# Altium integrated library Microchip PIC18.IntLib: 1897 symbols (part 25 of 110)
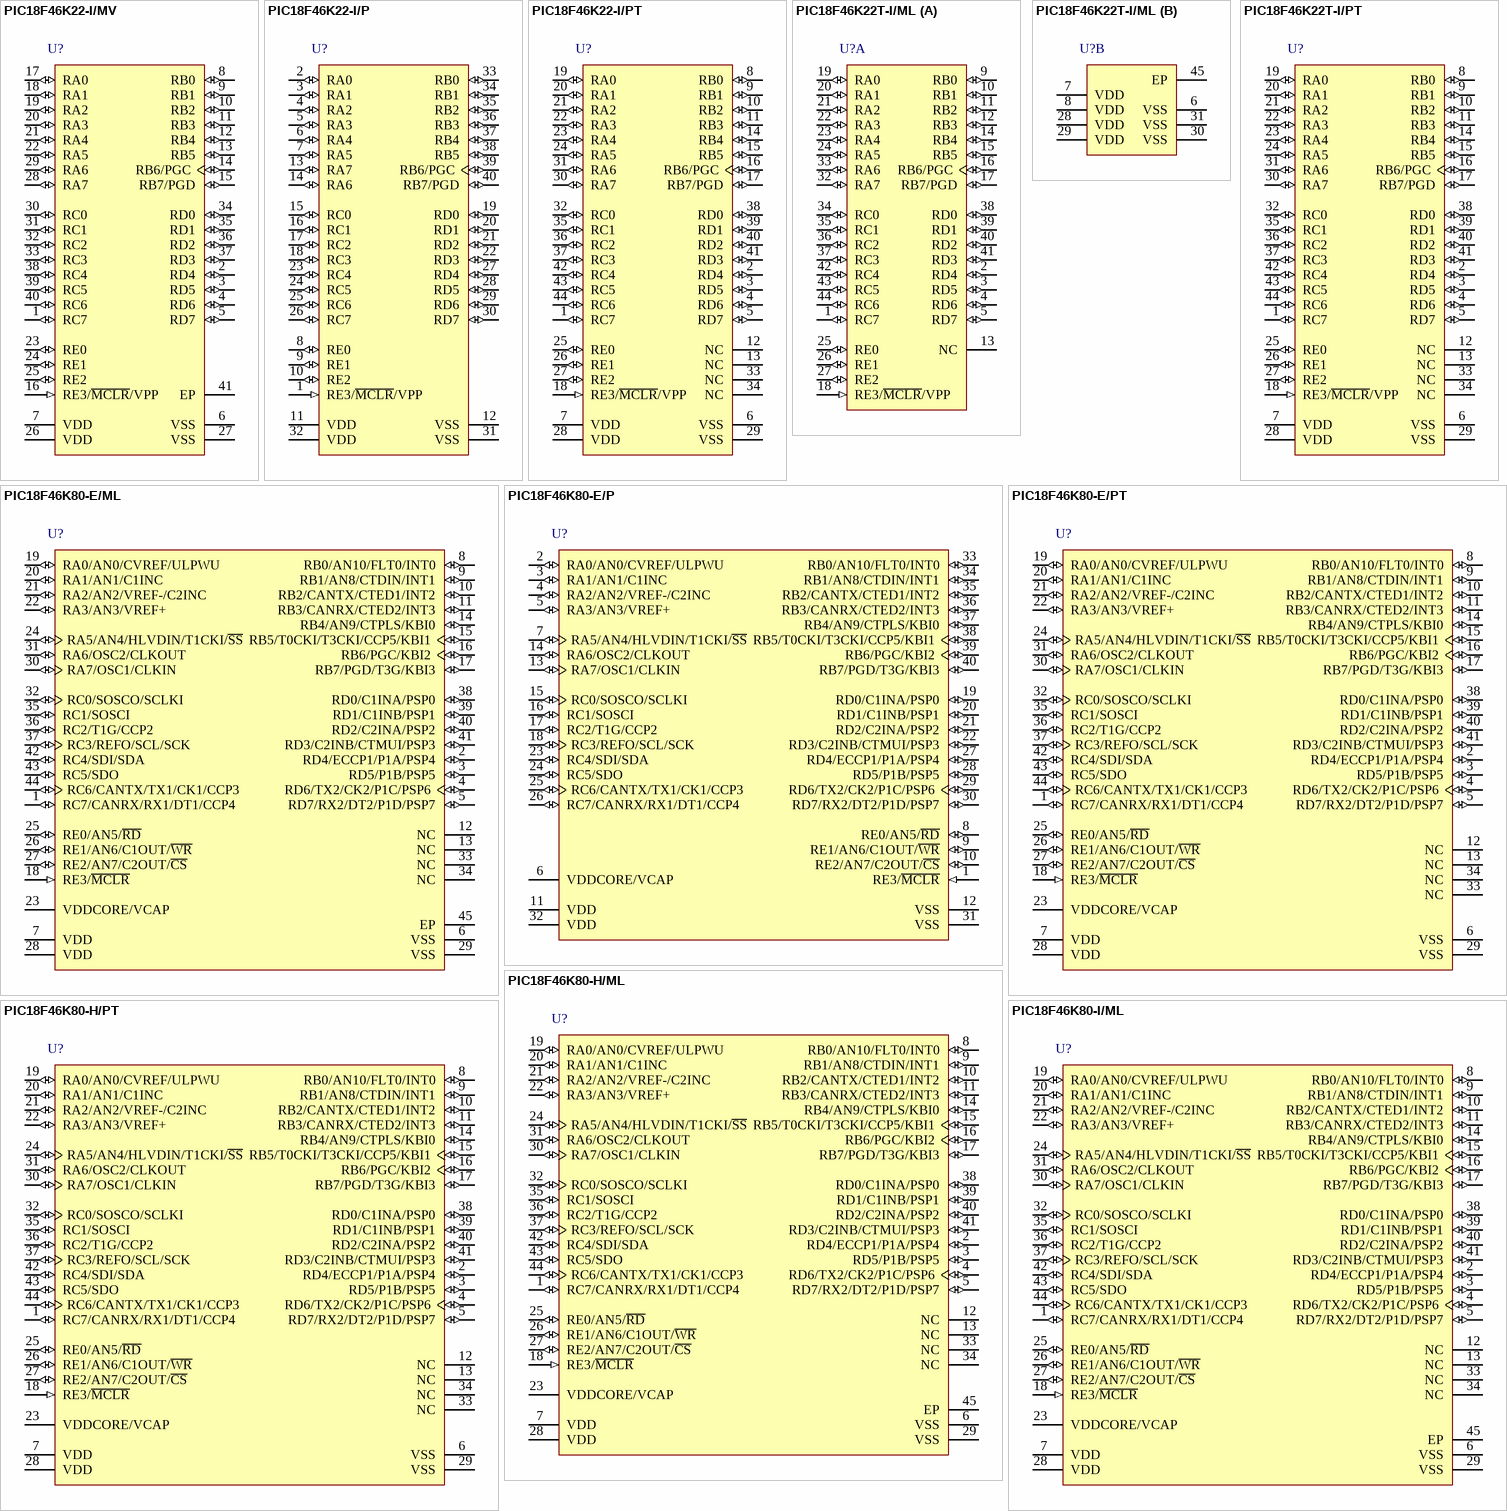
[diagram p235: symbols PIC18F46K22-I/MV to PIC18F46K80-I/ML]

## PIC18F46K80-E/ML
designator U?
Enhanced Flash Microcontroller with ECAN(TM) and nanoWatt XLP Technology, 64 MHz, 35 I/O, -40 to 125 degC, 44-pin QFN (ML44), Tube; Manufacturer: Microchip; PartNumber: PIC18F46K80-E/ML; # of A/D Channels: 11; Digital Communication: 2 -A/E/USART, 1 -SSP(SPI/I2C); EEPROM Data Memory (bytes): 1024; I/O Pins: 35; Internal Oscillator: 16 MHz, 31 kHz; Max. CPU Speed MHz: 64; Operation Voltage Range: 1.8V - 5.5V; Program Memory KWords: 32; RAM: 3648; Timers: 2 - 8-bit, 3 - 16-bit; DatasheetVersion: Rev. F; PackageVersion: C04-103C, 12/2012; PackageReference: QFN-ML44; PackageDescription: 44-Lead Plastic Quad Flat, 8 x 8 mm Body, 0.65 mm Pitch; Supplier 1: Digi-Key; Supplier Part Number 1: PIC18F46K80-E/ML-ND; Supplier 2: Mouser; Supplier Part Number 2: 579-PIC18F46K80-E/ML; Memory Type: Flash; Packing: TUBE; Program Memory KBytes: 64; RoHS: TRUE; Mounting Technology: Surface Mount; ComponentLink1Description: Datasheet; ComponentLink1URL: http://ww1.microchip.com/downloads/en/DeviceDoc/39977f.pdf; ComponentLink2Description: Package Specification; ComponentLink2URL: http://www.microchip.com/stellent/groups/techpub_sg/documents/packagingspec/en012702.pdf; ComponentLink3Description: URL Link1; ComponentLink3URL: Product URL:http://www.microchip.com/datasheet/PIC18F46K80
footprint MCHP-QFN-ML44_N (QFN, 44-Leads, Body 8x8mm, Pitch 0.65mm, Thermal Pad 6.425x6.425mm, IPC Medium Density)
footprint MCHP-QFN-ML44_L (QFN, 44-Leads, Body 8x8mm, Pitch 0.65mm, Thermal Pad 6.425x6.425mm, IPC High Density)
footprint MCHP-QFN-ML44_M (QFN, 44-Leads, Body 8x8mm, Pitch 0.65mm, Thermal Pad 6.425x6.425mm, IPC Low Density)
pins: 1 RC7/CANRX/RX1/DT1/CCP4 (io), 2 RD4/ECCP1/P1A/PSP4 (io), 3 RD5/P1B/PSP5 (io), 4 RD6/TX2/CK2/P1C/PSP6 (io), 5 RD7/RX2/DT2/P1D/PSP7 (io), 6 VSS (power) "Ground reference for logic and I/O pins.", 7 VDD (power) "Positive supply for logic and I/O pins.", 8 RB0/AN10/FLT0/INT0 (io), 9 RB1/AN8/CTDIN/INT1 (io), 10 RB2/CANTX/CTED1/INT2 (io), 11 RB3/CANRX/CTED2/INT3 (io), 12 NC "These pins should be left unconnected.", 13 NC "These pins should be left unconnected.", 14 RB4/AN9/CTPLS/KBI0 (io), 15 RB5/T0CKI/T3CKI/CCP5/KBI1 (io), 16 RB6/PGC/KBI2 (io), 17 RB7/PGD/T3G/KBI3 (io), 18 RE3/~{MCLR} (in), 19 RA0/AN0/CVREF/ULPWU (io), 20 RA1/AN1/C1INC (io), 21 RA2/AN2/VREF-/C2INC (io), 22 RA3/AN3/VREF+ (io), 23 VDDCORE/VCAP (power), 24 RA5/AN4/HLVDIN/T1CKI/~{SS} (io), 25 RE0/AN5/~{RD} (io), 26 RE1/AN6/C1OUT/~{WR} (io), 27 RE2/AN7/C2OUT/~{CS} (io), 28 VDD (power) "Positive supply for logic and I/O pins.", 29 VSS (power) "Ground reference for logic and I/O pins.", 30 RA7/OSC1/CLKIN (io), 31 RA6/OSC2/CLKOUT (io), 32 RC0/SOSCO/SCLKI (io), 33 NC "These pins should be left unconnected.", 34 NC "These pins should be left unconnected.", 35 RC1/SOSCI (io), 36 RC2/T1G/CCP2 (io), 37 RC3/REFO/SCL/SCK (io), 38 RD0/C1INA/PSP0 (io), 39 RD1/C1INB/PSP1 (io), 40 RD2/C2INA/PSP2 (io), 41 RD3/C2INB/CTMUI/PSP3 (io), 42 RC4/SDI/SDA (io), 43 RC5/SDO (io), 44 RC6/CANTX/TX1/CK1/CCP3 (io), 45 EP (power) "Exposed Pad"

## PIC18F46K80-E/P
designator U?
Enhanced Flash Microcontroller with ECAN(TM) and nanoWatt XLP Technology, 64 MHz, 35 I/O, -40 to 125 degC, 40-pin PDIP (P40), Tube; Manufacturer: Microchip; PartNumber: PIC18F46K80-E/P; # of A/D Channels: 11; Digital Communication: 2 -A/E/USART, 1 -SSP(SPI/I2C); EEPROM Data Memory (bytes): 1024; I/O Pins: 35; Internal Oscillator: 16 MHz, 31 kHz; Max. CPU Speed MHz: 64; Operation Voltage Range: 1.8V - 5.5V; Program Memory KWords: 32; RAM: 3648; Timers: 2 - 8-bit, 3 - 16-bit; DatasheetVersion: Rev. F; PackageVersion: C04-016B, 04/2013; PackageReference: PDIP-P40; PackageDescription: 40-Lead Plastic Dual In-Line Package, Body 51.75 x 13.53 mm, Pitch 2.54 mm; Supplier 1: Digi-Key; Supplier Part Number 1: PIC18F46K80-E/P-ND; Supplier 2: Mouser; Supplier Part Number 2: 579-PIC18F46K80-E/P; Memory Type: Flash; Packing: TUBE; Program Memory KBytes: 64; RoHS: TRUE; Mounting Technology: Through Hole; ComponentLink1Description: Datasheet; ComponentLink1URL: http://ww1.microchip.com/downloads/en/DeviceDoc/39977f.pdf; ComponentLink2Description: Package Specification; ComponentLink2URL: http://www.microchip.com/stellent/groups/techpub_sg/documents/packagingspec/en012702.pdf; ComponentLink3Description: URL Link1; ComponentLink3URL: Product URL:http://www.microchip.com/datasheet/PIC18F46K80
footprint MCHP-PDIP-P40 (PDIP, 40-Leads, Body 51.75x13.53mm, Pitch 2.54mm)
pins: 1 RE3/~{MCLR} (in), 2 RA0/AN0/CVREF/ULPWU (io), 3 RA1/AN1/C1INC (io), 4 RA2/AN2/VREF-/C2INC (io), 5 RA3/AN3/VREF+ (io), 6 VDDCORE/VCAP (power), 7 RA5/AN4/HLVDIN/T1CKI/~{SS} (io), 8 RE0/AN5/~{RD} (io), 9 RE1/AN6/C1OUT/~{WR} (io), 10 RE2/AN7/C2OUT/~{CS} (io), 11 VDD (power) "Positive supply for logic and I/O pins", 12 VSS (power) "Ground reference for logic and I/O pins", 13 RA7/OSC1/CLKIN (io), 14 RA6/OSC2/CLKOUT (io), 15 RC0/SOSCO/SCLKI (io), 16 RC1/SOSCI (io), 17 RC2/T1G/CCP2 (io), 18 RC3/REFO/SCL/SCK (io), 19 RD0/C1INA/PSP0 (io), 20 RD1/C1INB/PSP1 (io), 21 RD2/C2INA/PSP2 (io), 22 RD3/C2INB/CTMUI/PSP3 (io), 23 RC4/SDI/SDA (io), 24 RC5/SDO (io), 25 RC6/CANTX/TX1/CK1/CCP3 (io), 26 RC7/CANRX/RX1/DT1/CCP4 (io), 27 RD4/ECCP1/P1A/PSP4 (io), 28 RD5/P1B/PSP5 (io), 29 RD6/TX2/CK2/P1C/PSP6 (io), 30 RD7/RX2/DT2/P1D/PSP7 (io), 31 VSS (power) "Ground reference for logic and I/O pins", 32 VDD (power) "Positive supply for logic and I/O pins", 33 RB0/AN10/FLT0/INT0 (io), 34 RB1/AN8/CTDIN/INT1 (io), 35 RB2/CANTX/CTED1/INT2 (io), 36 RB3/CANRX/CTED2/INT3 (io), 37 RB4/AN9/CTPLS/KBI0 (io), 38 RB5/T0CKI/T3CKI/CCP5/KBI1 (io), 39 RB6/PGC/KBI2 (io), 40 RB7/PGD/T3G/KBI3 (io)

## PIC18F46K80-E/PT
designator U?
Enhanced Flash Microcontroller with ECAN(TM) and nanoWatt XLP Technology, 64 MHz, 35 I/O, -40 to 125 degC, 44-pin TQFP (PT44), Tray; Manufacturer: Microchip; PartNumber: PIC18F46K80-E/PT; # of A/D Channels: 11; Digital Communication: 2 -A/E/USART, 1 -SSP(SPI/I2C); EEPROM Data Memory (bytes): 1024; I/O Pins: 35; Internal Oscillator: 16 MHz, 31 kHz; Max. CPU Speed MHz: 64; Operation Voltage Range: 1.8V - 5.5V; Program Memory KWords: 32; RAM: 3648; Timers: 2 - 8-bit, 3 - 16-bit; DatasheetVersion: Rev. F; PackageVersion: C04-076B, 12/2012; PackageReference: TQFP-PT44; PackageDescription: 44-Lead Plastic Thin Quad Flatpack, 10 x 10 mm Body, 0.8 mm Pitch; Supplier 1: Digi-Key; Supplier Part Number 1: PIC18F46K80-E/PT-ND; Supplier 2: Farnell; Supplier Part Number 2: 2318413; Supplier 3: Newark; Supplier Part Number 3: 76R6702; Supplier 4: Mouser; Supplier Part Number 4: 579-PIC18F46K80-E/PT; Memory Type: Flash; Packing: TRAY; Program Memory KBytes: 64; RoHS: TRUE; Mounting Technology: Surface Mount; ComponentLink1Description: Datasheet; ComponentLink1URL: http://ww1.microchip.com/downloads/en/DeviceDoc/39977f.pdf; ComponentLink2Description: Package Specification; ComponentLink2URL: http://www.microchip.com/stellent/groups/techpub_sg/documents/packagingspec/en012702.pdf; ComponentLink3Description: URL Link1; ComponentLink3URL: Product URL:http://www.microchip.com/datasheet/PIC18F46K80
footprint MCHP-TQFP-PT44_N (QFN, 44-Leads, Body 10x10mm, Pitch 0.8mm, IPC Medium Density)
footprint MCHP-TQFP-PT44_L (QFN, 44-Leads, Body 10x10mm, Pitch 0.8mm, IPC High Density)
footprint MCHP-TQFP-PT44_M (QFN, 44-Leads, Body 10x10mm, Pitch 0.8mm, IPC Low Density)
pins: 1 RC7/CANRX/RX1/DT1/CCP4 (io), 2 RD4/ECCP1/P1A/PSP4 (io), 3 RD5/P1B/PSP5 (io), 4 RD6/TX2/CK2/P1C/PSP6 (io), 5 RD7/RX2/DT2/P1D/PSP7 (io), 6 VSS (power) "Ground reference for logic and I/O pins.", 7 VDD (power) "Positive supply for logic and I/O pins.", 8 RB0/AN10/FLT0/INT0 (io), 9 RB1/AN8/CTDIN/INT1 (io), 10 RB2/CANTX/CTED1/INT2 (io), 11 RB3/CANRX/CTED2/INT3 (io), 12 NC "These pins should be left unconnected.", 13 NC "These pins should be left unconnected.", 14 RB4/AN9/CTPLS/KBI0 (io), 15 RB5/T0CKI/T3CKI/CCP5/KBI1 (io), 16 RB6/PGC/KBI2 (io), 17 RB7/PGD/T3G/KBI3 (io), 18 RE3/~{MCLR} (in), 19 RA0/AN0/CVREF/ULPWU (io), 20 RA1/AN1/C1INC (io), 21 RA2/AN2/VREF-/C2INC (io), 22 RA3/AN3/VREF+ (io), 23 VDDCORE/VCAP (power), 24 RA5/AN4/HLVDIN/T1CKI/~{SS} (io), 25 RE0/AN5/~{RD} (io), 26 RE1/AN6/C1OUT/~{WR} (io), 27 RE2/AN7/C2OUT/~{CS} (io), 28 VDD (power) "Positive supply for logic and I/O pins.", 29 VSS (power) "Ground reference for logic and I/O pins.", 30 RA7/OSC1/CLKIN (io), 31 RA6/OSC2/CLKOUT (io), 32 RC0/SOSCO/SCLKI (io), 33 NC "These pins should be left unconnected.", 34 NC "These pins should be left unconnected.", 35 RC1/SOSCI (io), 36 RC2/T1G/CCP2 (io), 37 RC3/REFO/SCL/SCK (io), 38 RD0/C1INA/PSP0 (io), 39 RD1/C1INB/PSP1 (io), 40 RD2/C2INA/PSP2 (io), 41 RD3/C2INB/CTMUI/PSP3 (io), 42 RC4/SDI/SDA (io), 43 RC5/SDO (io), 44 RC6/CANTX/TX1/CK1/CCP3 (io)

## PIC18F46K80-H/ML
designator U?
Enhanced Flash Microcontroller with ECAN(TM) and nanoWatt XLP Technology, 64 MHz, 35 I/O, -40 to >125 degC, 44-pin QFN (ML44), Tube; Manufacturer: Microchip; PartNumber: PIC18F46K80-H/ML; # of A/D Channels: 11; Digital Communication: 2 -A/E/USART, 1 -SSP(SPI/I2C); EEPROM Data Memory (bytes): 1024; I/O Pins: 35; Internal Oscillator: 16 MHz, 31 kHz; Max. CPU Speed MHz: 64; Operation Voltage Range: 1.8V - 5.5V; Program Memory KWords: 32; RAM: 3648; Timers: 2 - 8-bit, 3 - 16-bit; DatasheetVersion: Rev. F; PackageVersion: C04-103C, 12/2012; PackageReference: QFN-ML44; PackageDescription: 44-Lead Plastic Quad Flat, 8 x 8 mm Body, 0.65 mm Pitch; Supplier 1: Digi-Key; Supplier Part Number 1: PIC18F46K80-H/ML-ND; Supplier 2: Mouser; Supplier Part Number 2: 579-PIC18F46K80-H/ML; Memory Type: Flash; Packing: TUBE; Program Memory KBytes: 64; RoHS: TRUE; Mounting Technology: Surface Mount; ComponentLink1Description: Datasheet; ComponentLink1URL: http://ww1.microchip.com/downloads/en/DeviceDoc/39977f.pdf; ComponentLink2Description: Package Specification; ComponentLink2URL: http://www.microchip.com/stellent/groups/techpub_sg/documents/packagingspec/en012702.pdf; ComponentLink3Description: URL Link1; ComponentLink3URL: Product URL:http://www.microchip.com/datasheet/PIC18F46K80
footprint MCHP-QFN-ML44_N (QFN, 44-Leads, Body 8x8mm, Pitch 0.65mm, Thermal Pad 6.425x6.425mm, IPC Medium Density)
footprint MCHP-QFN-ML44_L (QFN, 44-Leads, Body 8x8mm, Pitch 0.65mm, Thermal Pad 6.425x6.425mm, IPC High Density)
footprint MCHP-QFN-ML44_M (QFN, 44-Leads, Body 8x8mm, Pitch 0.65mm, Thermal Pad 6.425x6.425mm, IPC Low Density)
pins: 1 RC7/CANRX/RX1/DT1/CCP4 (io), 2 RD4/ECCP1/P1A/PSP4 (io), 3 RD5/P1B/PSP5 (io), 4 RD6/TX2/CK2/P1C/PSP6 (io), 5 RD7/RX2/DT2/P1D/PSP7 (io), 6 VSS (power) "Ground reference for logic and I/O pins.", 7 VDD (power) "Positive supply for logic and I/O pins.", 8 RB0/AN10/FLT0/INT0 (io), 9 RB1/AN8/CTDIN/INT1 (io), 10 RB2/CANTX/CTED1/INT2 (io), 11 RB3/CANRX/CTED2/INT3 (io), 12 NC "These pins should be left unconnected.", 13 NC "These pins should be left unconnected.", 14 RB4/AN9/CTPLS/KBI0 (io), 15 RB5/T0CKI/T3CKI/CCP5/KBI1 (io), 16 RB6/PGC/KBI2 (io), 17 RB7/PGD/T3G/KBI3 (io), 18 RE3/~{MCLR} (in), 19 RA0/AN0/CVREF/ULPWU (io), 20 RA1/AN1/C1INC (io), 21 RA2/AN2/VREF-/C2INC (io), 22 RA3/AN3/VREF+ (io), 23 VDDCORE/VCAP (power), 24 RA5/AN4/HLVDIN/T1CKI/~{SS} (io), 25 RE0/AN5/~{RD} (io), 26 RE1/AN6/C1OUT/~{WR} (io), 27 RE2/AN7/C2OUT/~{CS} (io), 28 VDD (power) "Positive supply for logic and I/O pins.", 29 VSS (power) "Ground reference for logic and I/O pins.", 30 RA7/OSC1/CLKIN (io), 31 RA6/OSC2/CLKOUT (io), 32 RC0/SOSCO/SCLKI (io), 33 NC "These pins should be left unconnected.", 34 NC "These pins should be left unconnected.", 35 RC1/SOSCI (io), 36 RC2/T1G/CCP2 (io), 37 RC3/REFO/SCL/SCK (io), 38 RD0/C1INA/PSP0 (io), 39 RD1/C1INB/PSP1 (io), 40 RD2/C2INA/PSP2 (io), 41 RD3/C2INB/CTMUI/PSP3 (io), 42 RC4/SDI/SDA (io), 43 RC5/SDO (io), 44 RC6/CANTX/TX1/CK1/CCP3 (io), 45 EP (power) "Exposed Pad"

## PIC18F46K80-H/PT
designator U?
Enhanced Flash Microcontroller with ECAN(TM) and nanoWatt XLP Technology, 64 MHz, 35 I/O, -40 to >125 degC, 44-pin TQFP (PT44), Tray; Manufacturer: Microchip; PartNumber: PIC18F46K80-H/PT; # of A/D Channels: 11; Digital Communication: 2 -A/E/USART, 1 -SSP(SPI/I2C); EEPROM Data Memory (bytes): 1024; I/O Pins: 35; Internal Oscillator: 16 MHz, 31 kHz; Max. CPU Speed MHz: 64; Operation Voltage Range: 1.8V - 5.5V; Program Memory KWords: 32; RAM: 3648; Timers: 2 - 8-bit, 3 - 16-bit; DatasheetVersion: Rev. F; PackageVersion: C04-076B, 12/2012; PackageReference: TQFP-PT44; PackageDescription: 44-Lead Plastic Thin Quad Flatpack, 10 x 10 mm Body, 0.8 mm Pitch; Supplier 1: Digi-Key; Supplier Part Number 1: PIC18F46K80-H/PT-ND; Supplier 2: Newark; Supplier Part Number 2: 55T3707; Supplier 3: Mouser; Supplier Part Number 3: 579-PIC18F46K80-H/PT; Memory Type: Flash; Packing: TRAY; Program Memory KBytes: 64; RoHS: TRUE; Mounting Technology: Surface Mount; ComponentLink1Description: Datasheet; ComponentLink1URL: http://ww1.microchip.com/downloads/en/DeviceDoc/39977f.pdf; ComponentLink2Description: Package Specification; ComponentLink2URL: http://www.microchip.com/stellent/groups/techpub_sg/documents/packagingspec/en012702.pdf; ComponentLink3Description: URL Link1; ComponentLink3URL: Product URL:http://www.microchip.com/datasheet/PIC18F46K80
footprint MCHP-TQFP-PT44_N (QFN, 44-Leads, Body 10x10mm, Pitch 0.8mm, IPC Medium Density)
footprint MCHP-TQFP-PT44_L (QFN, 44-Leads, Body 10x10mm, Pitch 0.8mm, IPC High Density)
footprint MCHP-TQFP-PT44_M (QFN, 44-Leads, Body 10x10mm, Pitch 0.8mm, IPC Low Density)
pins: 1 RC7/CANRX/RX1/DT1/CCP4 (io), 2 RD4/ECCP1/P1A/PSP4 (io), 3 RD5/P1B/PSP5 (io), 4 RD6/TX2/CK2/P1C/PSP6 (io), 5 RD7/RX2/DT2/P1D/PSP7 (io), 6 VSS (power) "Ground reference for logic and I/O pins.", 7 VDD (power) "Positive supply for logic and I/O pins.", 8 RB0/AN10/FLT0/INT0 (io), 9 RB1/AN8/CTDIN/INT1 (io), 10 RB2/CANTX/CTED1/INT2 (io), 11 RB3/CANRX/CTED2/INT3 (io), 12 NC "These pins should be left unconnected.", 13 NC "These pins should be left unconnected.", 14 RB4/AN9/CTPLS/KBI0 (io), 15 RB5/T0CKI/T3CKI/CCP5/KBI1 (io), 16 RB6/PGC/KBI2 (io), 17 RB7/PGD/T3G/KBI3 (io), 18 RE3/~{MCLR} (in), 19 RA0/AN0/CVREF/ULPWU (io), 20 RA1/AN1/C1INC (io), 21 RA2/AN2/VREF-/C2INC (io), 22 RA3/AN3/VREF+ (io), 23 VDDCORE/VCAP (power), 24 RA5/AN4/HLVDIN/T1CKI/~{SS} (io), 25 RE0/AN5/~{RD} (io), 26 RE1/AN6/C1OUT/~{WR} (io), 27 RE2/AN7/C2OUT/~{CS} (io), 28 VDD (power) "Positive supply for logic and I/O pins.", 29 VSS (power) "Ground reference for logic and I/O pins.", 30 RA7/OSC1/CLKIN (io), 31 RA6/OSC2/CLKOUT (io), 32 RC0/SOSCO/SCLKI (io), 33 NC "These pins should be left unconnected.", 34 NC "These pins should be left unconnected.", 35 RC1/SOSCI (io), 36 RC2/T1G/CCP2 (io), 37 RC3/REFO/SCL/SCK (io), 38 RD0/C1INA/PSP0 (io), 39 RD1/C1INB/PSP1 (io), 40 RD2/C2INA/PSP2 (io), 41 RD3/C2INB/CTMUI/PSP3 (io), 42 RC4/SDI/SDA (io), 43 RC5/SDO (io), 44 RC6/CANTX/TX1/CK1/CCP3 (io)

## PIC18F46K80-I/ML
designator U?
Enhanced Flash Microcontroller with ECAN(TM) and nanoWatt XLP Technology, 64 MHz, 35 I/O, -40 to 85 degC, 44-pin QFN (ML44), Tube; Manufacturer: Microchip; PartNumber: PIC18F46K80-I/ML; # of A/D Channels: 11; Digital Communication: 2 -A/E/USART, 1 -SSP(SPI/I2C); EEPROM Data Memory (bytes): 1024; I/O Pins: 35; Internal Oscillator: 16 MHz, 31 kHz; Max. CPU Speed MHz: 64; Operation Voltage Range: 1.8V - 5.5V; Program Memory KWords: 32; RAM: 3648; Timers: 2 - 8-bit, 3 - 16-bit; DatasheetVersion: Rev. F; PackageVersion: C04-103C, 12/2012; PackageReference: QFN-ML44; PackageDescription: 44-Lead Plastic Quad Flat, 8 x 8 mm Body, 0.65 mm Pitch; Supplier 1: Digi-Key; Supplier Part Number 1: PIC18F46K80-I/ML-ND; Supplier 2: Newark; Supplier Part Number 2: 76R6703; Supplier 3: Mouser; Supplier Part Number 3: 579-PIC18F46K80-I/ML; Memory Type: Flash; Packing: TUBE; Program Memory KBytes: 64; RoHS: TRUE; Mounting Technology: Surface Mount; ComponentLink1Description: Datasheet; ComponentLink1URL: http://ww1.microchip.com/downloads/en/DeviceDoc/39977f.pdf; ComponentLink2Description: Package Specification; ComponentLink2URL: http://www.microchip.com/stellent/groups/techpub_sg/documents/packagingspec/en012702.pdf; ComponentLink3Description: URL Link1; ComponentLink3URL: Product URL:http://www.microchip.com/datasheet/PIC18F46K80
footprint MCHP-QFN-ML44_N (QFN, 44-Leads, Body 8x8mm, Pitch 0.65mm, Thermal Pad 6.425x6.425mm, IPC Medium Density)
footprint MCHP-QFN-ML44_L (QFN, 44-Leads, Body 8x8mm, Pitch 0.65mm, Thermal Pad 6.425x6.425mm, IPC High Density)
footprint MCHP-QFN-ML44_M (QFN, 44-Leads, Body 8x8mm, Pitch 0.65mm, Thermal Pad 6.425x6.425mm, IPC Low Density)
pins: 1 RC7/CANRX/RX1/DT1/CCP4 (io), 2 RD4/ECCP1/P1A/PSP4 (io), 3 RD5/P1B/PSP5 (io), 4 RD6/TX2/CK2/P1C/PSP6 (io), 5 RD7/RX2/DT2/P1D/PSP7 (io), 6 VSS (power) "Ground reference for logic and I/O pins.", 7 VDD (power) "Positive supply for logic and I/O pins.", 8 RB0/AN10/FLT0/INT0 (io), 9 RB1/AN8/CTDIN/INT1 (io), 10 RB2/CANTX/CTED1/INT2 (io), 11 RB3/CANRX/CTED2/INT3 (io), 12 NC "These pins should be left unconnected.", 13 NC "These pins should be left unconnected.", 14 RB4/AN9/CTPLS/KBI0 (io), 15 RB5/T0CKI/T3CKI/CCP5/KBI1 (io), 16 RB6/PGC/KBI2 (io), 17 RB7/PGD/T3G/KBI3 (io), 18 RE3/~{MCLR} (in), 19 RA0/AN0/CVREF/ULPWU (io), 20 RA1/AN1/C1INC (io), 21 RA2/AN2/VREF-/C2INC (io), 22 RA3/AN3/VREF+ (io), 23 VDDCORE/VCAP (power), 24 RA5/AN4/HLVDIN/T1CKI/~{SS} (io), 25 RE0/AN5/~{RD} (io), 26 RE1/AN6/C1OUT/~{WR} (io), 27 RE2/AN7/C2OUT/~{CS} (io), 28 VDD (power) "Positive supply for logic and I/O pins.", 29 VSS (power) "Ground reference for logic and I/O pins.", 30 RA7/OSC1/CLKIN (io), 31 RA6/OSC2/CLKOUT (io), 32 RC0/SOSCO/SCLKI (io), 33 NC "These pins should be left unconnected.", 34 NC "These pins should be left unconnected.", 35 RC1/SOSCI (io), 36 RC2/T1G/CCP2 (io), 37 RC3/REFO/SCL/SCK (io), 38 RD0/C1INA/PSP0 (io), 39 RD1/C1INB/PSP1 (io), 40 RD2/C2INA/PSP2 (io), 41 RD3/C2INB/CTMUI/PSP3 (io), 42 RC4/SDI/SDA (io), 43 RC5/SDO (io), 44 RC6/CANTX/TX1/CK1/CCP3 (io), 45 EP (power) "Exposed Pad"

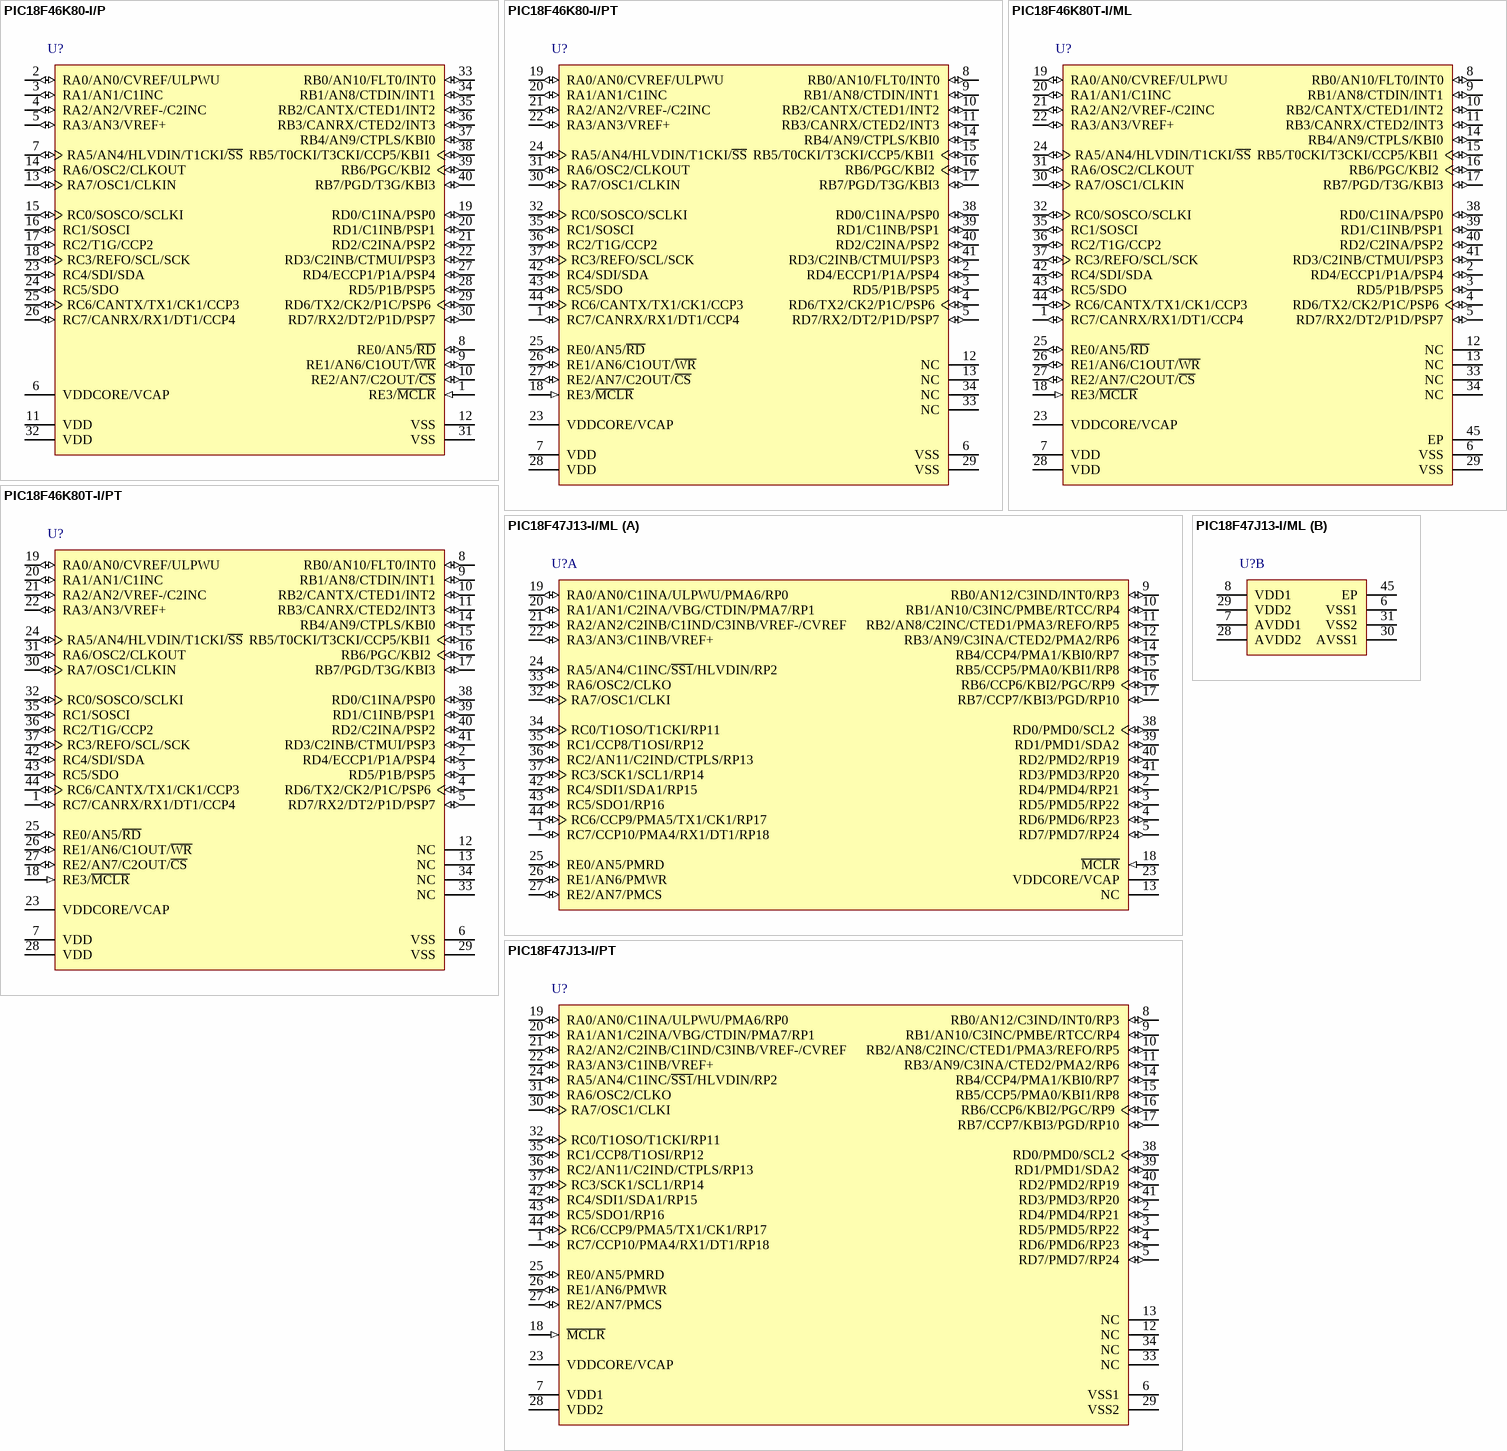
[diagram p39: symbols PIC18F46K80-I/P to PIC18F47J13-I/PT]

## PIC18F46K80-I/P
designator U?
Enhanced Flash Microcontroller with ECAN(TM) and nanoWatt XLP Technology, 64 MHz, 35 I/O, -40 to 85 degC, 40-pin PDIP (P40), Tube; Manufacturer: Microchip; PartNumber: PIC18F46K80-I/P; # of A/D Channels: 11; Digital Communication: 2 -A/E/USART, 1 -SSP(SPI/I2C); EEPROM Data Memory (bytes): 1024; I/O Pins: 35; Internal Oscillator: 16 MHz, 31 kHz; Max. CPU Speed MHz: 64; Operation Voltage Range: 1.8V - 5.5V; Program Memory KWords: 32; RAM: 3648; Timers: 2 - 8-bit, 3 - 16-bit; DatasheetVersion: Rev. F; PackageVersion: C04-016B, 04/2013; PackageReference: PDIP-P40; PackageDescription: 40-Lead Plastic Dual In-Line Package, Body 51.75 x 13.53 mm, Pitch 2.54 mm; Supplier 1: Digi-Key; Supplier Part Number 1: PIC18F46K80-I/P-ND; Supplier 2: Farnell; Supplier Part Number 2: 1823172; Supplier 3: Newark; Supplier Part Number 3: 76R6704; Supplier 4: Mouser; Supplier Part Number 4: 579-PIC18F46K80-I/P; Memory Type: Flash; Packing: TUBE; Program Memory KBytes: 64; RoHS: TRUE; Mounting Technology: Through Hole; ComponentLink1Description: Datasheet; ComponentLink1URL: http://ww1.microchip.com/downloads/en/DeviceDoc/39977f.pdf; ComponentLink2Description: Package Specification; ComponentLink2URL: http://www.microchip.com/stellent/groups/techpub_sg/documents/packagingspec/en012702.pdf; ComponentLink3Description: URL Link1; ComponentLink3URL: Product URL:http://www.microchip.com/datasheet/PIC18F46K80
footprint MCHP-PDIP-P40 (PDIP, 40-Leads, Body 51.75x13.53mm, Pitch 2.54mm)
pins: 1 RE3/~{MCLR} (in), 2 RA0/AN0/CVREF/ULPWU (io), 3 RA1/AN1/C1INC (io), 4 RA2/AN2/VREF-/C2INC (io), 5 RA3/AN3/VREF+ (io), 6 VDDCORE/VCAP (power), 7 RA5/AN4/HLVDIN/T1CKI/~{SS} (io), 8 RE0/AN5/~{RD} (io), 9 RE1/AN6/C1OUT/~{WR} (io), 10 RE2/AN7/C2OUT/~{CS} (io), 11 VDD (power) "Positive supply for logic and I/O pins", 12 VSS (power) "Ground reference for logic and I/O pins", 13 RA7/OSC1/CLKIN (io), 14 RA6/OSC2/CLKOUT (io), 15 RC0/SOSCO/SCLKI (io), 16 RC1/SOSCI (io), 17 RC2/T1G/CCP2 (io), 18 RC3/REFO/SCL/SCK (io), 19 RD0/C1INA/PSP0 (io), 20 RD1/C1INB/PSP1 (io), 21 RD2/C2INA/PSP2 (io), 22 RD3/C2INB/CTMUI/PSP3 (io), 23 RC4/SDI/SDA (io), 24 RC5/SDO (io), 25 RC6/CANTX/TX1/CK1/CCP3 (io), 26 RC7/CANRX/RX1/DT1/CCP4 (io), 27 RD4/ECCP1/P1A/PSP4 (io), 28 RD5/P1B/PSP5 (io), 29 RD6/TX2/CK2/P1C/PSP6 (io), 30 RD7/RX2/DT2/P1D/PSP7 (io), 31 VSS (power) "Ground reference for logic and I/O pins", 32 VDD (power) "Positive supply for logic and I/O pins", 33 RB0/AN10/FLT0/INT0 (io), 34 RB1/AN8/CTDIN/INT1 (io), 35 RB2/CANTX/CTED1/INT2 (io), 36 RB3/CANRX/CTED2/INT3 (io), 37 RB4/AN9/CTPLS/KBI0 (io), 38 RB5/T0CKI/T3CKI/CCP5/KBI1 (io), 39 RB6/PGC/KBI2 (io), 40 RB7/PGD/T3G/KBI3 (io)

## PIC18F46K80-I/PT
designator U?
Enhanced Flash Microcontroller with ECAN(TM) and nanoWatt XLP Technology, 64 MHz, 35 I/O, -40 to 85 degC, 44-pin TQFP (PT44), Tray; Manufacturer: Microchip; PartNumber: PIC18F46K80-I/PT; # of A/D Channels: 11; Digital Communication: 2 -A/E/USART, 1 -SSP(SPI/I2C); EEPROM Data Memory (bytes): 1024; I/O Pins: 35; Internal Oscillator: 16 MHz, 31 kHz; Max. CPU Speed MHz: 64; Operation Voltage Range: 1.8V - 5.5V; Program Memory KWords: 32; RAM: 3648; Timers: 2 - 8-bit, 3 - 16-bit; DatasheetVersion: Rev. F; PackageVersion: C04-076B, 12/2012; PackageReference: TQFP-PT44; PackageDescription: 44-Lead Plastic Thin Quad Flatpack, 10 x 10 mm Body, 0.8 mm Pitch; Supplier 1: Digi-Key; Supplier Part Number 1: PIC18F46K80-I/PT-ND; Supplier 2: Farnell; Supplier Part Number 2: 1823173; Supplier 3: Farnell; Supplier Part Number 3: 1823173MPKG; Supplier 4: Newark; Supplier Part Number 4: 76R6705; Supplier 5: Mouser; Supplier Part Number 5: 579-PIC18F46K80-I/PT; Memory Type: Flash; Packing: TRAY; Program Memory KBytes: 64; RoHS: TRUE; Mounting Technology: Surface Mount; ComponentLink1Description: Datasheet; ComponentLink1URL: http://ww1.microchip.com/downloads/en/DeviceDoc/39977f.pdf; ComponentLink2Description: Package Specification; ComponentLink2URL: http://www.microchip.com/stellent/groups/techpub_sg/documents/packagingspec/en012702.pdf; ComponentLink3Description: URL Link1; ComponentLink3URL: Product URL:http://www.microchip.com/datasheet/PIC18F46K80
footprint MCHP-TQFP-PT44_N (QFN, 44-Leads, Body 10x10mm, Pitch 0.8mm, IPC Medium Density)
footprint MCHP-TQFP-PT44_L (QFN, 44-Leads, Body 10x10mm, Pitch 0.8mm, IPC High Density)
footprint MCHP-TQFP-PT44_M (QFN, 44-Leads, Body 10x10mm, Pitch 0.8mm, IPC Low Density)
pins: 1 RC7/CANRX/RX1/DT1/CCP4 (io), 2 RD4/ECCP1/P1A/PSP4 (io), 3 RD5/P1B/PSP5 (io), 4 RD6/TX2/CK2/P1C/PSP6 (io), 5 RD7/RX2/DT2/P1D/PSP7 (io), 6 VSS (power) "Ground reference for logic and I/O pins.", 7 VDD (power) "Positive supply for logic and I/O pins.", 8 RB0/AN10/FLT0/INT0 (io), 9 RB1/AN8/CTDIN/INT1 (io), 10 RB2/CANTX/CTED1/INT2 (io), 11 RB3/CANRX/CTED2/INT3 (io), 12 NC "These pins should be left unconnected.", 13 NC "These pins should be left unconnected.", 14 RB4/AN9/CTPLS/KBI0 (io), 15 RB5/T0CKI/T3CKI/CCP5/KBI1 (io), 16 RB6/PGC/KBI2 (io), 17 RB7/PGD/T3G/KBI3 (io), 18 RE3/~{MCLR} (in), 19 RA0/AN0/CVREF/ULPWU (io), 20 RA1/AN1/C1INC (io), 21 RA2/AN2/VREF-/C2INC (io), 22 RA3/AN3/VREF+ (io), 23 VDDCORE/VCAP (power), 24 RA5/AN4/HLVDIN/T1CKI/~{SS} (io), 25 RE0/AN5/~{RD} (io), 26 RE1/AN6/C1OUT/~{WR} (io), 27 RE2/AN7/C2OUT/~{CS} (io), 28 VDD (power) "Positive supply for logic and I/O pins.", 29 VSS (power) "Ground reference for logic and I/O pins.", 30 RA7/OSC1/CLKIN (io), 31 RA6/OSC2/CLKOUT (io), 32 RC0/SOSCO/SCLKI (io), 33 NC "These pins should be left unconnected.", 34 NC "These pins should be left unconnected.", 35 RC1/SOSCI (io), 36 RC2/T1G/CCP2 (io), 37 RC3/REFO/SCL/SCK (io), 38 RD0/C1INA/PSP0 (io), 39 RD1/C1INB/PSP1 (io), 40 RD2/C2INA/PSP2 (io), 41 RD3/C2INB/CTMUI/PSP3 (io), 42 RC4/SDI/SDA (io), 43 RC5/SDO (io), 44 RC6/CANTX/TX1/CK1/CCP3 (io)

## PIC18F46K80T-I/ML
designator U?
Enhanced Flash Microcontroller with ECAN(TM) and nanoWatt XLP Technology, 64 MHz, 35 I/O, -40 to 85 degC, 44-pin QFN (ML44), Tape and Reel; Manufacturer: Microchip; PartNumber: PIC18F46K80T-I/ML; # of A/D Channels: 11; Digital Communication: 2 -A/E/USART, 1 -SSP(SPI/I2C); EEPROM Data Memory (bytes): 1024; I/O Pins: 35; Internal Oscillator: 16 MHz, 31 kHz; Max. CPU Speed MHz: 64; Operation Voltage Range: 1.8V - 5.5V; Packing: T/R; Program Memory KWords: 32; RAM: 3648; Timers: 2 - 8-bit, 3 - 16-bit; DatasheetVersion: Rev. F; PackageVersion: C04-103C, 12/2012; PackageReference: QFN-ML44; PackageDescription: 44-Lead Plastic Quad Flat, 8 x 8 mm Body, 0.65 mm Pitch; Supplier 1: Digi-Key; Supplier Part Number 1: PIC18F46K80T-I/ML-ND; Supplier 2: Mouser; Supplier Part Number 2: 579-PIC18F46K80TI/ML; Memory Type: Flash; Program Memory KBytes: 64; RoHS: TRUE; Mounting Technology: Surface Mount; ComponentLink1Description: Datasheet; ComponentLink1URL: http://ww1.microchip.com/downloads/en/DeviceDoc/39977f.pdf; ComponentLink2Description: Package Specification; ComponentLink2URL: http://www.microchip.com/stellent/groups/techpub_sg/documents/packagingspec/en012702.pdf; ComponentLink3Description: URL Link1; ComponentLink3URL: Product URL:http://www.microchip.com/datasheet/PIC18F46K80
footprint MCHP-QFN-ML44_N (QFN, 44-Leads, Body 8x8mm, Pitch 0.65mm, Thermal Pad 6.425x6.425mm, IPC Medium Density)
footprint MCHP-QFN-ML44_L (QFN, 44-Leads, Body 8x8mm, Pitch 0.65mm, Thermal Pad 6.425x6.425mm, IPC High Density)
footprint MCHP-QFN-ML44_M (QFN, 44-Leads, Body 8x8mm, Pitch 0.65mm, Thermal Pad 6.425x6.425mm, IPC Low Density)
pins: 1 RC7/CANRX/RX1/DT1/CCP4 (io), 2 RD4/ECCP1/P1A/PSP4 (io), 3 RD5/P1B/PSP5 (io), 4 RD6/TX2/CK2/P1C/PSP6 (io), 5 RD7/RX2/DT2/P1D/PSP7 (io), 6 VSS (power) "Ground reference for logic and I/O pins.", 7 VDD (power) "Positive supply for logic and I/O pins.", 8 RB0/AN10/FLT0/INT0 (io), 9 RB1/AN8/CTDIN/INT1 (io), 10 RB2/CANTX/CTED1/INT2 (io), 11 RB3/CANRX/CTED2/INT3 (io), 12 NC "These pins should be left unconnected.", 13 NC "These pins should be left unconnected.", 14 RB4/AN9/CTPLS/KBI0 (io), 15 RB5/T0CKI/T3CKI/CCP5/KBI1 (io), 16 RB6/PGC/KBI2 (io), 17 RB7/PGD/T3G/KBI3 (io), 18 RE3/~{MCLR} (in), 19 RA0/AN0/CVREF/ULPWU (io), 20 RA1/AN1/C1INC (io), 21 RA2/AN2/VREF-/C2INC (io), 22 RA3/AN3/VREF+ (io), 23 VDDCORE/VCAP (power), 24 RA5/AN4/HLVDIN/T1CKI/~{SS} (io), 25 RE0/AN5/~{RD} (io), 26 RE1/AN6/C1OUT/~{WR} (io), 27 RE2/AN7/C2OUT/~{CS} (io), 28 VDD (power) "Positive supply for logic and I/O pins.", 29 VSS (power) "Ground reference for logic and I/O pins.", 30 RA7/OSC1/CLKIN (io), 31 RA6/OSC2/CLKOUT (io), 32 RC0/SOSCO/SCLKI (io), 33 NC "These pins should be left unconnected.", 34 NC "These pins should be left unconnected.", 35 RC1/SOSCI (io), 36 RC2/T1G/CCP2 (io), 37 RC3/REFO/SCL/SCK (io), 38 RD0/C1INA/PSP0 (io), 39 RD1/C1INB/PSP1 (io), 40 RD2/C2INA/PSP2 (io), 41 RD3/C2INB/CTMUI/PSP3 (io), 42 RC4/SDI/SDA (io), 43 RC5/SDO (io), 44 RC6/CANTX/TX1/CK1/CCP3 (io), 45 EP (power) "Exposed Pad"

## PIC18F46K80T-I/PT
designator U?
Enhanced Flash Microcontroller with ECAN(TM) and nanoWatt XLP Technology, 64 MHz, 35 I/O, -40 to 85 degC, 44-pin TQFP (PT44), Tape and Reel; Manufacturer: Microchip; PartNumber: PIC18F46K80T-I/PT; # of A/D Channels: 11; Digital Communication: 2 -A/E/USART, 1 -SSP(SPI/I2C); EEPROM Data Memory (bytes): 1024; I/O Pins: 35; Internal Oscillator: 16 MHz, 31 kHz; Max. CPU Speed MHz: 64; Operation Voltage Range: 1.8V - 5.5V; Packing: T/R; Program Memory KWords: 32; RAM: 3648; Timers: 2 - 8-bit, 3 - 16-bit; DatasheetVersion: Rev. F; PackageVersion: C04-076B, 12/2012; PackageReference: TQFP-PT44; PackageDescription: 44-Lead Plastic Thin Quad Flatpack, 10 x 10 mm Body, 0.8 mm Pitch; Supplier 1: Digi-Key; Supplier Part Number 1: PIC18F46K80T-I/PT-ND; Supplier 2: Mouser; Supplier Part Number 2: 579-PIC18F46K80TI/PT; Memory Type: Flash; Program Memory KBytes: 64; RoHS: TRUE; Mounting Technology: Surface Mount; ComponentLink1Description: Datasheet; ComponentLink1URL: http://ww1.microchip.com/downloads/en/DeviceDoc/39977f.pdf; ComponentLink2Description: Package Specification; ComponentLink2URL: http://www.microchip.com/stellent/groups/techpub_sg/documents/packagingspec/en012702.pdf; ComponentLink3Description: URL Link1; ComponentLink3URL: Product URL:http://www.microchip.com/datasheet/PIC18F46K80
footprint MCHP-TQFP-PT44_N (QFN, 44-Leads, Body 10x10mm, Pitch 0.8mm, IPC Medium Density)
footprint MCHP-TQFP-PT44_L (QFN, 44-Leads, Body 10x10mm, Pitch 0.8mm, IPC High Density)
footprint MCHP-TQFP-PT44_M (QFN, 44-Leads, Body 10x10mm, Pitch 0.8mm, IPC Low Density)
pins: 1 RC7/CANRX/RX1/DT1/CCP4 (io), 2 RD4/ECCP1/P1A/PSP4 (io), 3 RD5/P1B/PSP5 (io), 4 RD6/TX2/CK2/P1C/PSP6 (io), 5 RD7/RX2/DT2/P1D/PSP7 (io), 6 VSS (power) "Ground reference for logic and I/O pins.", 7 VDD (power) "Positive supply for logic and I/O pins.", 8 RB0/AN10/FLT0/INT0 (io), 9 RB1/AN8/CTDIN/INT1 (io), 10 RB2/CANTX/CTED1/INT2 (io), 11 RB3/CANRX/CTED2/INT3 (io), 12 NC "These pins should be left unconnected.", 13 NC "These pins should be left unconnected.", 14 RB4/AN9/CTPLS/KBI0 (io), 15 RB5/T0CKI/T3CKI/CCP5/KBI1 (io), 16 RB6/PGC/KBI2 (io), 17 RB7/PGD/T3G/KBI3 (io), 18 RE3/~{MCLR} (in), 19 RA0/AN0/CVREF/ULPWU (io), 20 RA1/AN1/C1INC (io), 21 RA2/AN2/VREF-/C2INC (io), 22 RA3/AN3/VREF+ (io), 23 VDDCORE/VCAP (power), 24 RA5/AN4/HLVDIN/T1CKI/~{SS} (io), 25 RE0/AN5/~{RD} (io), 26 RE1/AN6/C1OUT/~{WR} (io), 27 RE2/AN7/C2OUT/~{CS} (io), 28 VDD (power) "Positive supply for logic and I/O pins.", 29 VSS (power) "Ground reference for logic and I/O pins.", 30 RA7/OSC1/CLKIN (io), 31 RA6/OSC2/CLKOUT (io), 32 RC0/SOSCO/SCLKI (io), 33 NC "These pins should be left unconnected.", 34 NC "These pins should be left unconnected.", 35 RC1/SOSCI (io), 36 RC2/T1G/CCP2 (io), 37 RC3/REFO/SCL/SCK (io), 38 RD0/C1INA/PSP0 (io), 39 RD1/C1INB/PSP1 (io), 40 RD2/C2INA/PSP2 (io), 41 RD3/C2INB/CTMUI/PSP3 (io), 42 RC4/SDI/SDA (io), 43 RC5/SDO (io), 44 RC6/CANTX/TX1/CK1/CCP3 (io)

## PIC18F47J13-I/ML
designator U?
High-Performance Microcontroller with nanoWatt XLP Technology, 48 MHz, 34 I/O, -40 to 85 degC, 44-pin QFN (ML44), Tube; Manufacturer: Microchip; PartNumber: PIC18F47J13-I/ML; # of A/D Channels: 13; Digital Communication: 2 -A/E/USART, 2 -MSSP(SPI/I2C); I/O Pins: 34; Internal Oscillator: 8 MHz, 31 kHz; Max. CPU Speed MHz: 48; Memory Type: Flash; Operation Voltage Range: 2.15V - 3.6V; Program Memory KBytes: 128; Program Memory KWords: 64; RAM: 3760; Timers: 4 - 8-bit, 4 - 16-bit; DatasheetVersion: Rev. A; PackageVersion: C04-103C, 12/2012; PackageReference: QFN-ML44; PackageDescription: 44-Lead Plastic Quad Flat, 8 x 8 mm Body, 0.65 mm Pitch; Supplier 1: Digi-Key; Supplier Part Number 1: PIC18F47J13-I/ML-ND; Supplier 2: Farnell; Supplier Part Number 2: 1814998; Supplier 3: Mouser; Supplier Part Number 3: 579-PIC18F47J13-I/ML; Packing: TUBE; RoHS: TRUE; Mounting Technology: Surface Mount; ComponentLink1Description: Datasheet; ComponentLink1URL: http://ww1.microchip.com/downloads/en/DeviceDoc/39974A.pdf; ComponentLink2Description: Package Specification; ComponentLink2URL: http://www.microchip.com/stellent/groups/techpub_sg/documents/packagingspec/en012702.pdf; ComponentLink3Description: URL Link1; ComponentLink3URL: Product URL:http://www.microchip.com/datasheet/PIC18F47J13
footprint MCHP-QFN-ML44_N (QFN, 44-Leads, Body 8x8mm, Pitch 0.65mm, Thermal Pad 6.425x6.425mm, IPC Medium Density)
footprint MCHP-QFN-ML44_L (QFN, 44-Leads, Body 8x8mm, Pitch 0.65mm, Thermal Pad 6.425x6.425mm, IPC High Density)
footprint MCHP-QFN-ML44_M (QFN, 44-Leads, Body 8x8mm, Pitch 0.65mm, Thermal Pad 6.425x6.425mm, IPC Low Density)
part A pins: 1 RC7/CCP10/PMA4/RX1/DT1/RP18 (io), 2 RD4/PMD4/RP21 (io), 3 RD5/PMD5/RP22 (io), 4 RD6/PMD6/RP23 (io), 5 RD7/PMD7/RP24 (io), 9 RB0/AN12/C3IND/INT0/RP3 (io), 10 RB1/AN10/C3INC/PMBE/RTCC/RP4 (io), 11 RB2/AN8/C2INC/CTED1/PMA3/REFO/RP5 (io), 12 RB3/AN9/C3INA/CTED2/PMA2/RP6 (io), 13 NC, 14 RB4/CCP4/PMA1/KBI0/RP7 (io), 15 RB5/CCP5/PMA0/KBI1/RP8 (io), 16 RB6/CCP6/KBI2/PGC/RP9 (io), 17 RB7/CCP7/KBI3/PGD/RP10 (io), 18 ~{MCLR} (in) "Master Clear (Reset) input. This pin is an active-low Reset to the device.", 19 RA0/AN0/C1INA/ULPWU/PMA6/RP0 (io), 20 RA1/AN1/C2INA/VBG/CTDIN/PMA7/RP1 (io), 21 RA2/AN2/C2INB/C1IND/C3INB/VREF-/CVREF (io), 22 RA3/AN3/C1INB/VREF+ (io), 23 VDDCORE/VCAP (power), 24 RA5/AN4/C1INC/~{SS1}/HLVDIN/RP2 (io), 25 RE0/AN5/PMRD (io), 26 RE1/AN6/PMWR (io), 27 RE2/AN7/PMCS (io), 32 RA7/OSC1/CLKI (io), 33 RA6/OSC2/CLKO (io), 34 RC0/T1OSO/T1CKI/RP11 (io), 35 RC1/CCP8/T1OSI/RP12 (io), 36 RC2/AN11/C2IND/CTPLS/RP13 (io), 37 RC3/SCK1/SCL1/RP14 (io), 38 RD0/PMD0/SCL2 (io), 39 RD1/PMD1/SDA2 (io), 40 RD2/PMD2/RP19 (io), 41 RD3/PMD3/RP20 (io), 42 RC4/SDI1/SDA1/RP15 (io), 43 RC5/SDO1/RP16 (io), 44 RC6/CCP9/PMA5/TX1/CK1/RP17 (io)
part B pins: 6 VSS1 (power) "Ground reference for logic and I/O pins.", 7 AVDD1 (power) "Positive supply for analog modules.", 8 VDD1 (power) "Positive supply for peripheral digital logic and I/O pins.", 28 AVDD2 (power) "Positive supply for analog modules.", 29 VDD2 (power) "Positive supply for peripheral digital logic and I/O pins.", 30 AVSS1 (power) "Ground reference for analog modules.", 31 VSS2 (power) "Ground reference for logic and I/O pins.", 45 EP (power) "Exposed Pad"

## PIC18F47J13-I/PT
designator U?
High-Performance Microcontroller with nanoWatt XLP Technology, 48 MHz, 34 I/O, -40 to 85 degC, 44-pin TQFP (PT44), Tray; Manufacturer: Microchip; PartNumber: PIC18F47J13-I/PT; # of A/D Channels: 13; Digital Communication: 2 -A/E/USART, 2 -MSSP(SPI/I2C); I/O Pins: 34; Internal Oscillator: 8 MHz, 31 kHz; Max. CPU Speed MHz: 48; Memory Type: Flash; Operation Voltage Range: 2.15V - 3.6V; Program Memory KBytes: 128; Program Memory KWords: 64; RAM: 3760; Timers: 4 - 8-bit, 4 - 16-bit; DatasheetVersion: Rev. A; PackageVersion: C04-076B, 12/2012; PackageReference: TQFP-PT44; PackageDescription: 44-Lead Plastic Thin Quad Flatpack, 10 x 10 mm Body, 0.8 mm Pitch; Supplier 1: Digi-Key; Supplier Part Number 1: PIC18F47J13-I/PT-ND; Supplier 2: Farnell; Supplier Part Number 2: 1814999MPKG; Supplier 3: Farnell; Supplier Part Number 3: 1814999; Supplier 4: Mouser; Supplier Part Number 4: 579-PIC18F47J13-I/PT; Packing: TRAY; RoHS: TRUE; Mounting Technology: Surface Mount; ComponentLink1Description: Datasheet; ComponentLink1URL: http://ww1.microchip.com/downloads/en/DeviceDoc/39974A.pdf; ComponentLink2Description: Package Specification; ComponentLink2URL: http://www.microchip.com/stellent/groups/techpub_sg/documents/packagingspec/en012702.pdf; ComponentLink3Description: URL Link1; ComponentLink3URL: Product URL:http://www.microchip.com/datasheet/PIC18F47J13
footprint MCHP-TQFP-PT44_N (QFN, 44-Leads, Body 10x10mm, Pitch 0.8mm, IPC Medium Density)
footprint MCHP-TQFP-PT44_L (QFN, 44-Leads, Body 10x10mm, Pitch 0.8mm, IPC High Density)
footprint MCHP-TQFP-PT44_M (QFN, 44-Leads, Body 10x10mm, Pitch 0.8mm, IPC Low Density)
pins: 1 RC7/CCP10/PMA4/RX1/DT1/RP18 (io), 2 RD4/PMD4/RP21 (io), 3 RD5/PMD5/RP22 (io), 4 RD6/PMD6/RP23 (io), 5 RD7/PMD7/RP24 (io), 6 VSS1 (power) "Ground reference for logic and I/O pins.", 7 VDD1 (power) "Positive supply for peripheral digital logic and I/O pins.", 8 RB0/AN12/C3IND/INT0/RP3 (io), 9 RB1/AN10/C3INC/PMBE/RTCC/RP4 (io), 10 RB2/AN8/C2INC/CTED1/PMA3/REFO/RP5 (io), 11 RB3/AN9/C3INA/CTED2/PMA2/RP6 (io), 12 NC, 13 NC, 14 RB4/CCP4/PMA1/KBI0/RP7 (io), 15 RB5/CCP5/PMA0/KBI1/RP8 (io), 16 RB6/CCP6/KBI2/PGC/RP9 (io), 17 RB7/CCP7/KBI3/PGD/RP10 (io), 18 ~{MCLR} (in) "Master Clear (Reset) input. This pin is an active-low Reset to the device.", 19 RA0/AN0/C1INA/ULPWU/PMA6/RP0 (io), 20 RA1/AN1/C2INA/VBG/CTDIN/PMA7/RP1 (io), 21 RA2/AN2/C2INB/C1IND/C3INB/VREF-/CVREF (io), 22 RA3/AN3/C1INB/VREF+ (io), 23 VDDCORE/VCAP (power), 24 RA5/AN4/C1INC/~{SS1}/HLVDIN/RP2 (io), 25 RE0/AN5/PMRD (io), 26 RE1/AN6/PMWR (io), 27 RE2/AN7/PMCS (io), 28 VDD2 (power) "Positive supply for peripheral digital logic and I/O pins.", 29 VSS2 (power) "Ground reference for logic and I/O pins.", 30 RA7/OSC1/CLKI (io), 31 RA6/OSC2/CLKO (io), 32 RC0/T1OSO/T1CKI/RP11 (io), 33 NC, 34 NC, 35 RC1/CCP8/T1OSI/RP12 (io), 36 RC2/AN11/C2IND/CTPLS/RP13 (io), 37 RC3/SCK1/SCL1/RP14 (io), 38 RD0/PMD0/SCL2 (io), 39 RD1/PMD1/SDA2 (io), 40 RD2/PMD2/RP19 (io), 41 RD3/PMD3/RP20 (io), 42 RC4/SDI1/SDA1/RP15 (io), 43 RC5/SDO1/RP16 (io), 44 RC6/CCP9/PMA5/TX1/CK1/RP17 (io)

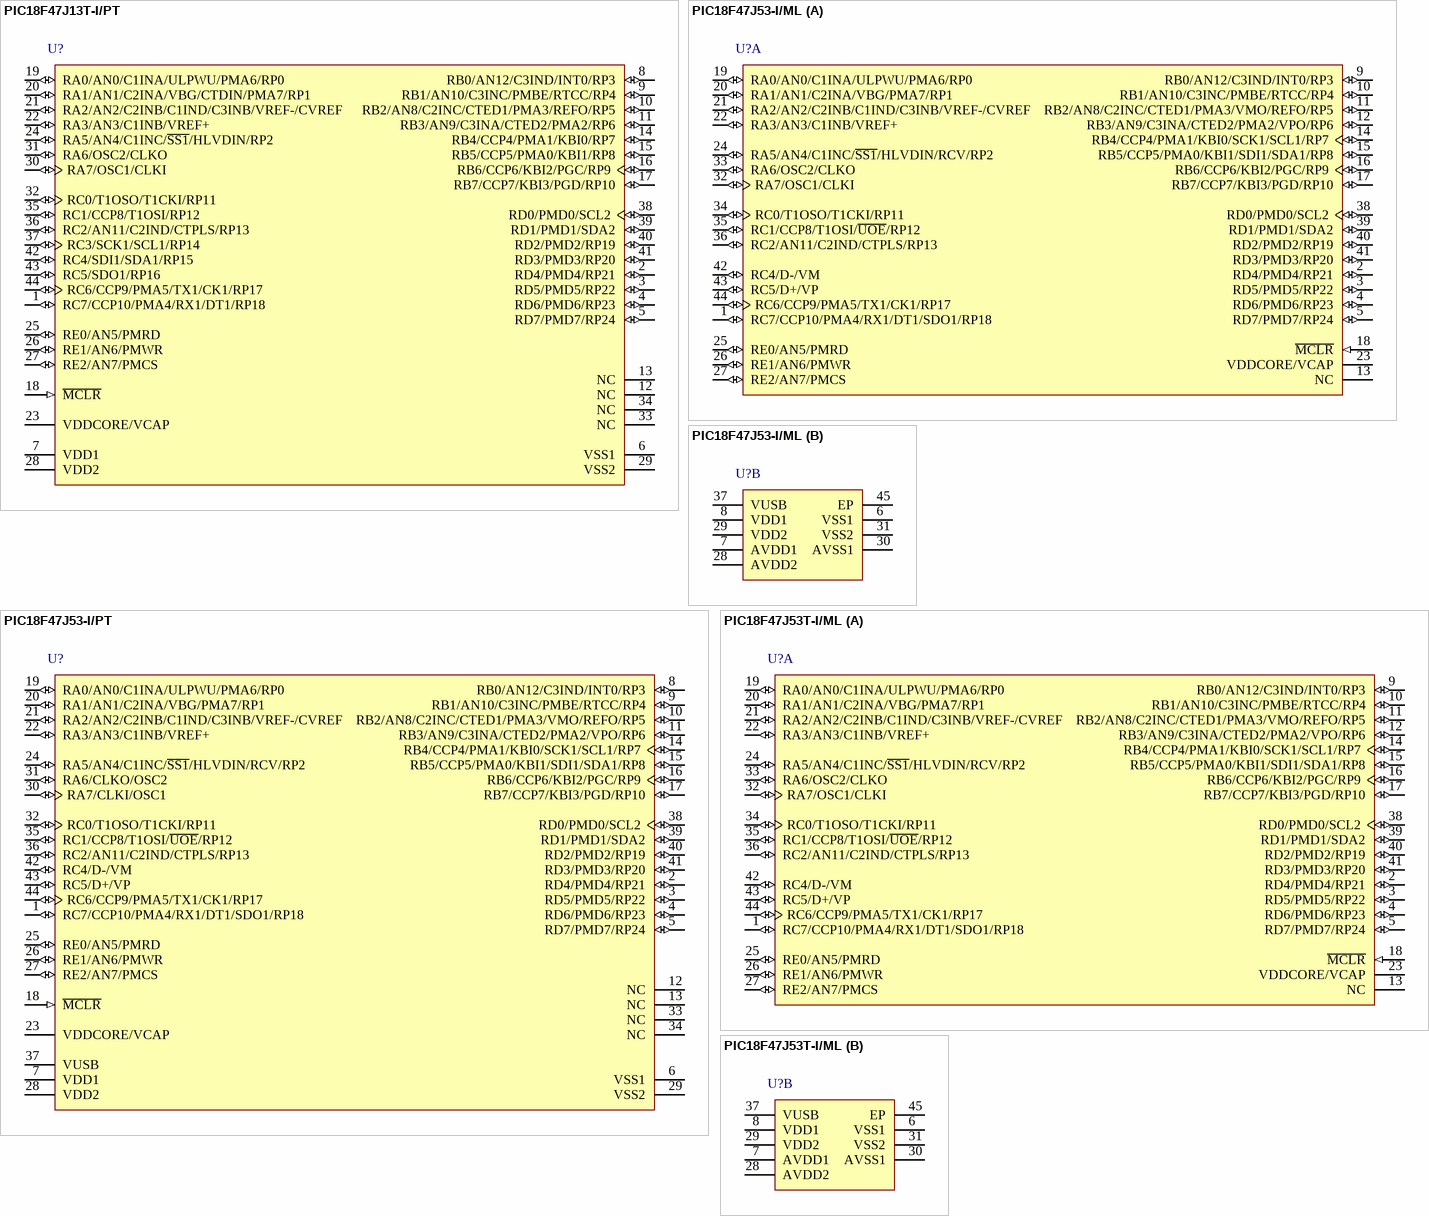
[diagram p40: symbols PIC18F47J13T-I/PT to PIC18F47J53T-I/ML]

## PIC18F47J13T-I/PT
designator U?
High-Performance Microcontroller with nanoWatt XLP Technology, 48 MHz, 34 I/O, -40 to 85 degC, 44-pin TQFP (PT44), Tape and Reel; Manufacturer: Microchip; PartNumber: PIC18F47J13T-I/PT; # of A/D Channels: 13; Digital Communication: 2 -A/E/USART, 2 -MSSP(SPI/I2C); I/O Pins: 34; Internal Oscillator: 8 MHz, 31 kHz; Max. CPU Speed MHz: 48; Memory Type: Flash; Operation Voltage Range: 2.15V - 3.6V; Packing: T/R; Program Memory KBytes: 128; Program Memory KWords: 64; RAM: 3760; Timers: 4 - 8-bit, 4 - 16-bit; DatasheetVersion: Rev. A; PackageVersion: C04-076B, 12/2012; PackageReference: TQFP-PT44; PackageDescription: 44-Lead Plastic Thin Quad Flatpack, 10 x 10 mm Body, 0.8 mm Pitch; Supplier 1: Digi-Key; Supplier Part Number 1: PIC18F47J13T-I/PT-ND; Supplier 2: Mouser; Supplier Part Number 2: 579-PIC18F47J13TIPT; RoHS: TRUE; Mounting Technology: Surface Mount; ComponentLink1Description: Datasheet; ComponentLink1URL: http://ww1.microchip.com/downloads/en/DeviceDoc/39974A.pdf; ComponentLink2Description: Package Specification; ComponentLink2URL: http://www.microchip.com/stellent/groups/techpub_sg/documents/packagingspec/en012702.pdf; ComponentLink3Description: URL Link1; ComponentLink3URL: Product URL:http://www.microchip.com/datasheet/PIC18F47J13
footprint MCHP-TQFP-PT44_N (QFN, 44-Leads, Body 10x10mm, Pitch 0.8mm, IPC Medium Density)
footprint MCHP-TQFP-PT44_L (QFN, 44-Leads, Body 10x10mm, Pitch 0.8mm, IPC High Density)
footprint MCHP-TQFP-PT44_M (QFN, 44-Leads, Body 10x10mm, Pitch 0.8mm, IPC Low Density)
pins: 1 RC7/CCP10/PMA4/RX1/DT1/RP18 (io), 2 RD4/PMD4/RP21 (io), 3 RD5/PMD5/RP22 (io), 4 RD6/PMD6/RP23 (io), 5 RD7/PMD7/RP24 (io), 6 VSS1 (power) "Ground reference for logic and I/O pins.", 7 VDD1 (power) "Positive supply for peripheral digital logic and I/O pins.", 8 RB0/AN12/C3IND/INT0/RP3 (io), 9 RB1/AN10/C3INC/PMBE/RTCC/RP4 (io), 10 RB2/AN8/C2INC/CTED1/PMA3/REFO/RP5 (io), 11 RB3/AN9/C3INA/CTED2/PMA2/RP6 (io), 12 NC, 13 NC, 14 RB4/CCP4/PMA1/KBI0/RP7 (io), 15 RB5/CCP5/PMA0/KBI1/RP8 (io), 16 RB6/CCP6/KBI2/PGC/RP9 (io), 17 RB7/CCP7/KBI3/PGD/RP10 (io), 18 ~{MCLR} (in) "Master Clear (Reset) input. This pin is an active-low Reset to the device.", 19 RA0/AN0/C1INA/ULPWU/PMA6/RP0 (io), 20 RA1/AN1/C2INA/VBG/CTDIN/PMA7/RP1 (io), 21 RA2/AN2/C2INB/C1IND/C3INB/VREF-/CVREF (io), 22 RA3/AN3/C1INB/VREF+ (io), 23 VDDCORE/VCAP (power), 24 RA5/AN4/C1INC/~{SS1}/HLVDIN/RP2 (io), 25 RE0/AN5/PMRD (io), 26 RE1/AN6/PMWR (io), 27 RE2/AN7/PMCS (io), 28 VDD2 (power) "Positive supply for peripheral digital logic and I/O pins.", 29 VSS2 (power) "Ground reference for logic and I/O pins.", 30 RA7/OSC1/CLKI (io), 31 RA6/OSC2/CLKO (io), 32 RC0/T1OSO/T1CKI/RP11 (io), 33 NC, 34 NC, 35 RC1/CCP8/T1OSI/RP12 (io), 36 RC2/AN11/C2IND/CTPLS/RP13 (io), 37 RC3/SCK1/SCL1/RP14 (io), 38 RD0/PMD0/SCL2 (io), 39 RD1/PMD1/SDA2 (io), 40 RD2/PMD2/RP19 (io), 41 RD3/PMD3/RP20 (io), 42 RC4/SDI1/SDA1/RP15 (io), 43 RC5/SDO1/RP16 (io), 44 RC6/CCP9/PMA5/TX1/CK1/RP17 (io)

## PIC18F47J53-I/ML
designator U?
High-Performance USB Microcontroller with nanoWatt XLP Technology, 48 MHz, 33 I/O, -40 to 85 degC, 44-pin QFN (ML44), Tube; Manufacturer: Microchip; PartNumber: PIC18F47J53-I/ML; # of A/D Channels: 13; Digital Communication: 2 -A/E/USART, 2 -MSSP(SPI/I2C); I/O Pins: 33; Internal Oscillator: 8 MHz, 31 kHz; Max. CPU Speed MHz: 48; Memory Type: Flash; Operation Voltage Range: 2.15V - 3.6V; Program Memory KBytes: 128; Program Memory KWords: 64; RAM: 3800; Timers: 4 - 8-bit, 4 - 16-bit; DatasheetVersion: Rev. B; PackageVersion: C04-103C, 12/2012; PackageReference: QFN-ML44; PackageDescription: 44-Lead Plastic Quad Flat, 8 x 8 mm Body, 0.65 mm Pitch; Supplier 1: Digi-Key; Supplier Part Number 1: PIC18F47J53-I/ML-ND; Supplier 2: Farnell; Supplier Part Number 2: 1815000; Supplier 3: Newark; Supplier Part Number 3: 63R7855; Supplier 4: Mouser; Supplier Part Number 4: 579-PIC18F47J53-I/ML; Packing: TUBE; RoHS: TRUE; Mounting Technology: Surface Mount; ComponentLink1Description: Datasheet; ComponentLink1URL: http://ww1.microchip.com/downloads/en/DeviceDoc/39964B.pdf; ComponentLink2Description: Package Specification; ComponentLink2URL: http://www.microchip.com/stellent/groups/techpub_sg/documents/packagingspec/en012702.pdf; ComponentLink3Description: URL Link1; ComponentLink3URL: Product URL:http://www.microchip.com/datasheet/PIC18F47J53
footprint MCHP-QFN-ML44_N (QFN, 44-Leads, Body 8x8mm, Pitch 0.65mm, Thermal Pad 6.425x6.425mm, IPC Medium Density)
footprint MCHP-QFN-ML44_L (QFN, 44-Leads, Body 8x8mm, Pitch 0.65mm, Thermal Pad 6.425x6.425mm, IPC High Density)
footprint MCHP-QFN-ML44_M (QFN, 44-Leads, Body 8x8mm, Pitch 0.65mm, Thermal Pad 6.425x6.425mm, IPC Low Density)
part A pins: 1 RC7/CCP10/PMA4/RX1/DT1/SDO1/RP18 (io), 2 RD4/PMD4/RP21 (io), 3 RD5/PMD5/RP22 (io), 4 RD6/PMD6/RP23 (io), 5 RD7/PMD7/RP24 (io), 9 RB0/AN12/C3IND/INT0/RP3 (io), 10 RB1/AN10/C3INC/PMBE/RTCC/RP4 (io), 11 RB2/AN8/C2INC/CTED1/PMA3/VMO/REFO/RP5 (io), 12 RB3/AN9/C3INA/CTED2/PMA2/VPO/RP6 (io), 13 NC, 14 RB4/CCP4/PMA1/KBI0/SCK1/SCL1/RP7 (io), 15 RB5/CCP5/PMA0/KBI1/SDI1/SDA1/RP8 (io), 16 RB6/CCP6/KBI2/PGC/RP9 (io), 17 RB7/CCP7/KBI3/PGD/RP10 (io), 18 ~{MCLR} (in) "Master Clear (Reset) input. This pin is an active-low Reset to the device.", 19 RA0/AN0/C1INA/ULPWU/PMA6/RP0 (io), 20 RA1/AN1/C2INA/VBG/PMA7/RP1 (io), 21 RA2/AN2/C2INB/C1IND/C3INB/VREF-/CVREF (io), 22 RA3/AN3/C1INB/VREF+ (io), 23 VDDCORE/VCAP (power), 24 RA5/AN4/C1INC/~{SS1}/HLVDIN/RCV/RP2 (io), 25 RE0/AN5/PMRD (io), 26 RE1/AN6/PMWR (io), 27 RE2/AN7/PMCS (io), 32 RA7/OSC1/CLKI (io), 33 RA6/OSC2/CLKO (io), 34 RC0/T1OSO/T1CKI/RP11 (io), 35 RC1/CCP8/T1OSI/~{UOE}/RP12 (io), 36 RC2/AN11/C2IND/CTPLS/RP13 (io), 38 RD0/PMD0/SCL2 (io), 39 RD1/PMD1/SDA2 (io), 40 RD2/PMD2/RP19 (io), 41 RD3/PMD3/RP20 (io), 42 RC4/D-/VM (io), 43 RC5/D+/VP (io), 44 RC6/CCP9/PMA5/TX1/CK1/RP17 (io)
part B pins: 6 VSS1 (power) "Ground reference for logic and I/O pins.", 7 AVDD1 (power) "Positive supply for analog modules.", 8 VDD1 (power) "Positive supply for peripheral digital logic and I/O pins.", 28 AVDD2 (power) "Positive supply for analog modules.", 29 VDD2 (power) "Positive supply for peripheral digital logic and I/O pins.", 30 AVSS1 (power) "Ground reference for logic and I/O pins.", 31 VSS2 (power) "Ground reference for logic and I/O pins.", 37 VUSB (power) "USB voltage input pin.", 45 EP (power)

## PIC18F47J53-I/PT
designator U?
High-Performance USB Microcontroller with nanoWatt XLP Technology, 48 MHz, 33 I/O, -40 to 85 degC, 44-pin TQFP (PT44), Tray; Manufacturer: Microchip; PartNumber: PIC18F47J53-I/PT; # of A/D Channels: 13; Digital Communication: 2 -A/E/USART, 2 -MSSP(SPI/I2C); I/O Pins: 33; Internal Oscillator: 8 MHz, 31 kHz; Max. CPU Speed MHz: 48; Memory Type: Flash; Operation Voltage Range: 2.15V - 3.6V; Program Memory KBytes: 128; Program Memory KWords: 64; RAM: 3800; Timers: 4 - 8-bit, 4 - 16-bit; DatasheetVersion: Rev. B; PackageVersion: C04-076B, 12/2012; PackageReference: TQFP-PT44; PackageDescription: 44-Lead Plastic Thin Quad Flatpack, 10 x 10 mm Body, 0.8 mm Pitch; Supplier 1: Digi-Key; Supplier Part Number 1: PIC18F47J53-I/PT-ND; Supplier 2: Farnell; Supplier Part Number 2: 1815001MPKG; Supplier 3: Farnell; Supplier Part Number 3: 1815001; Supplier 4: Newark; Supplier Part Number 4: 63R7856; Supplier 5: Mouser; Supplier Part Number 5: 579-PIC18F47J53-I/PT; Packing: TRAY; RoHS: TRUE; Mounting Technology: Surface Mount; ComponentLink1Description: Datasheet; ComponentLink1URL: http://ww1.microchip.com/downloads/en/DeviceDoc/39964B.pdf; ComponentLink2Description: Package Specification; ComponentLink2URL: http://www.microchip.com/stellent/groups/techpub_sg/documents/packagingspec/en012702.pdf; ComponentLink3Description: URL Link1; ComponentLink3URL: Product URL:http://www.microchip.com/datasheet/PIC18F47J53
footprint MCHP-TQFP-PT44_N (QFN, 44-Leads, Body 10x10mm, Pitch 0.8mm, IPC Medium Density)
footprint MCHP-TQFP-PT44_L (QFN, 44-Leads, Body 10x10mm, Pitch 0.8mm, IPC High Density)
footprint MCHP-TQFP-PT44_M (QFN, 44-Leads, Body 10x10mm, Pitch 0.8mm, IPC Low Density)
pins: 1 RC7/CCP10/PMA4/RX1/DT1/SDO1/RP18 (io), 2 RD4/PMD4/RP21 (io), 3 RD5/PMD5/RP22 (io), 4 RD6/PMD6/RP23 (io), 5 RD7/PMD7/RP24 (io), 6 VSS1 (power) "Ground reference for logic and I/O pins.", 7 VDD1 (power) "Positive supply for peripheral digital logic and I/O pins.", 8 RB0/AN12/C3IND/INT0/RP3 (io), 9 RB1/AN10/C3INC/PMBE/RTCC/RP4 (io), 10 RB2/AN8/C2INC/CTED1/PMA3/VMO/REFO/RP5 (io), 11 RB3/AN9/C3INA/CTED2/PMA2/VPO/RP6 (io), 12 NC, 13 NC, 14 RB4/CCP4/PMA1/KBI0/SCK1/SCL1/RP7 (io), 15 RB5/CCP5/PMA0/KBI1/SDI1/SDA1/RP8 (io), 16 RB6/CCP6/KBI2/PGC/RP9 (io), 17 RB7/CCP7/KBI3/PGD/RP10 (io), 18 ~{MCLR} (in) "Master Clear (Reset) input; this is an active-low Reset to the device.", 19 RA0/AN0/C1INA/ULPWU/PMA6/RP0 (io), 20 RA1/AN1/C2INA/VBG/PMA7/RP1 (io), 21 RA2/AN2/C2INB/C1IND/C3INB/VREF-/CVREF (io), 22 RA3/AN3/C1INB/VREF+ (io), 23 VDDCORE/VCAP (power), 24 RA5/AN4/C1INC/~{SS1}/HLVDIN/RCV/RP2 (io), 25 RE0/AN5/PMRD (io), 26 RE1/AN6/PMWR (io), 27 RE2/AN7/PMCS (io), 28 VDD2 (power) "Positive supply for peripheral digital logic and I/O pins.", 29 VSS2 (power) "Ground reference for logic and I/O pins.", 30 RA7/CLKI/OSC1 (io), 31 RA6/CLKO/OSC2 (io), 32 RC0/T1OSO/T1CKI/RP11 (io), 33 NC, 34 NC, 35 RC1/CCP8/T1OSI/~{UOE}/RP12 (io), 36 RC2/AN11/C2IND/CTPLS/RP13 (io), 37 VUSB (power) "USB voltage input pin.", 38 RD0/PMD0/SCL2 (io), 39 RD1/PMD1/SDA2 (io), 40 RD2/PMD2/RP19 (io), 41 RD3/PMD3/RP20 (io), 42 RC4/D-/VM (io), 43 RC5/D+/VP (io), 44 RC6/CCP9/PMA5/TX1/CK1/RP17 (io)

## PIC18F47J53T-I/ML
designator U?
High-Performance USB Microcontroller with nanoWatt XLP Technology, 48 MHz, 33 I/O, -40 to 85 degC, 44-pin QFN (ML44), Tape and Reel; Manufacturer: Microchip; PartNumber: PIC18F47J53T-I/ML; # of A/D Channels: 13; Digital Communication: 2 -A/E/USART, 2 -MSSP(SPI/I2C); I/O Pins: 33; Internal Oscillator: 8 MHz, 31 kHz; Max. CPU Speed MHz: 48; Memory Type: Flash; Operation Voltage Range: 2.15V - 3.6V; Packing: T/R; Program Memory KBytes: 128; Program Memory KWords: 64; RAM: 3800; Timers: 4 - 8-bit, 4 - 16-bit; DatasheetVersion: Rev. B; PackageVersion: C04-103C, 12/2012; PackageReference: QFN-ML44; PackageDescription: 44-Lead Plastic Quad Flat, 8 x 8 mm Body, 0.65 mm Pitch; Supplier 1: Digi-Key; Supplier Part Number 1: PIC18F47J53T-I/ML-ND; Supplier 2: Mouser; Supplier Part Number 2: 579-PIC18F47J53TIML; RoHS: TRUE; Mounting Technology: Surface Mount; ComponentLink1Description: Datasheet; ComponentLink1URL: http://ww1.microchip.com/downloads/en/DeviceDoc/39964B.pdf; ComponentLink2Description: Package Specification; ComponentLink2URL: http://www.microchip.com/stellent/groups/techpub_sg/documents/packagingspec/en012702.pdf; ComponentLink3Description: URL Link1; ComponentLink3URL: Product URL:http://www.microchip.com/datasheet/PIC18F47J53
footprint MCHP-QFN-ML44_N (QFN, 44-Leads, Body 8x8mm, Pitch 0.65mm, Thermal Pad 6.425x6.425mm, IPC Medium Density)
footprint MCHP-QFN-ML44_L (QFN, 44-Leads, Body 8x8mm, Pitch 0.65mm, Thermal Pad 6.425x6.425mm, IPC High Density)
footprint MCHP-QFN-ML44_M (QFN, 44-Leads, Body 8x8mm, Pitch 0.65mm, Thermal Pad 6.425x6.425mm, IPC Low Density)
part A pins: 1 RC7/CCP10/PMA4/RX1/DT1/SDO1/RP18 (io), 2 RD4/PMD4/RP21 (io), 3 RD5/PMD5/RP22 (io), 4 RD6/PMD6/RP23 (io), 5 RD7/PMD7/RP24 (io), 9 RB0/AN12/C3IND/INT0/RP3 (io), 10 RB1/AN10/C3INC/PMBE/RTCC/RP4 (io), 11 RB2/AN8/C2INC/CTED1/PMA3/VMO/REFO/RP5 (io), 12 RB3/AN9/C3INA/CTED2/PMA2/VPO/RP6 (io), 13 NC, 14 RB4/CCP4/PMA1/KBI0/SCK1/SCL1/RP7 (io), 15 RB5/CCP5/PMA0/KBI1/SDI1/SDA1/RP8 (io), 16 RB6/CCP6/KBI2/PGC/RP9 (io), 17 RB7/CCP7/KBI3/PGD/RP10 (io), 18 ~{MCLR} (in) "Master Clear (Reset) input. This pin is an active-low Reset to the device.", 19 RA0/AN0/C1INA/ULPWU/PMA6/RP0 (io), 20 RA1/AN1/C2INA/VBG/PMA7/RP1 (io), 21 RA2/AN2/C2INB/C1IND/C3INB/VREF-/CVREF (io), 22 RA3/AN3/C1INB/VREF+ (io), 23 VDDCORE/VCAP (power), 24 RA5/AN4/C1INC/~{SS1}/HLVDIN/RCV/RP2 (io), 25 RE0/AN5/PMRD (io), 26 RE1/AN6/PMWR (io), 27 RE2/AN7/PMCS (io), 32 RA7/OSC1/CLKI (io), 33 RA6/OSC2/CLKO (io), 34 RC0/T1OSO/T1CKI/RP11 (io), 35 RC1/CCP8/T1OSI/~{UOE}/RP12 (io), 36 RC2/AN11/C2IND/CTPLS/RP13 (io), 38 RD0/PMD0/SCL2 (io), 39 RD1/PMD1/SDA2 (io), 40 RD2/PMD2/RP19 (io), 41 RD3/PMD3/RP20 (io), 42 RC4/D-/VM (io), 43 RC5/D+/VP (io), 44 RC6/CCP9/PMA5/TX1/CK1/RP17 (io)
part B pins: 6 VSS1 (power) "Ground reference for logic and I/O pins.", 7 AVDD1 (power) "Positive supply for analog modules.", 8 VDD1 (power) "Positive supply for peripheral digital logic and I/O pins.", 28 AVDD2 (power) "Positive supply for analog modules.", 29 VDD2 (power) "Positive supply for peripheral digital logic and I/O pins.", 30 AVSS1 (power) "Ground reference for logic and I/O pins.", 31 VSS2 (power) "Ground reference for logic and I/O pins.", 37 VUSB (power) "USB voltage input pin.", 45 EP (power)

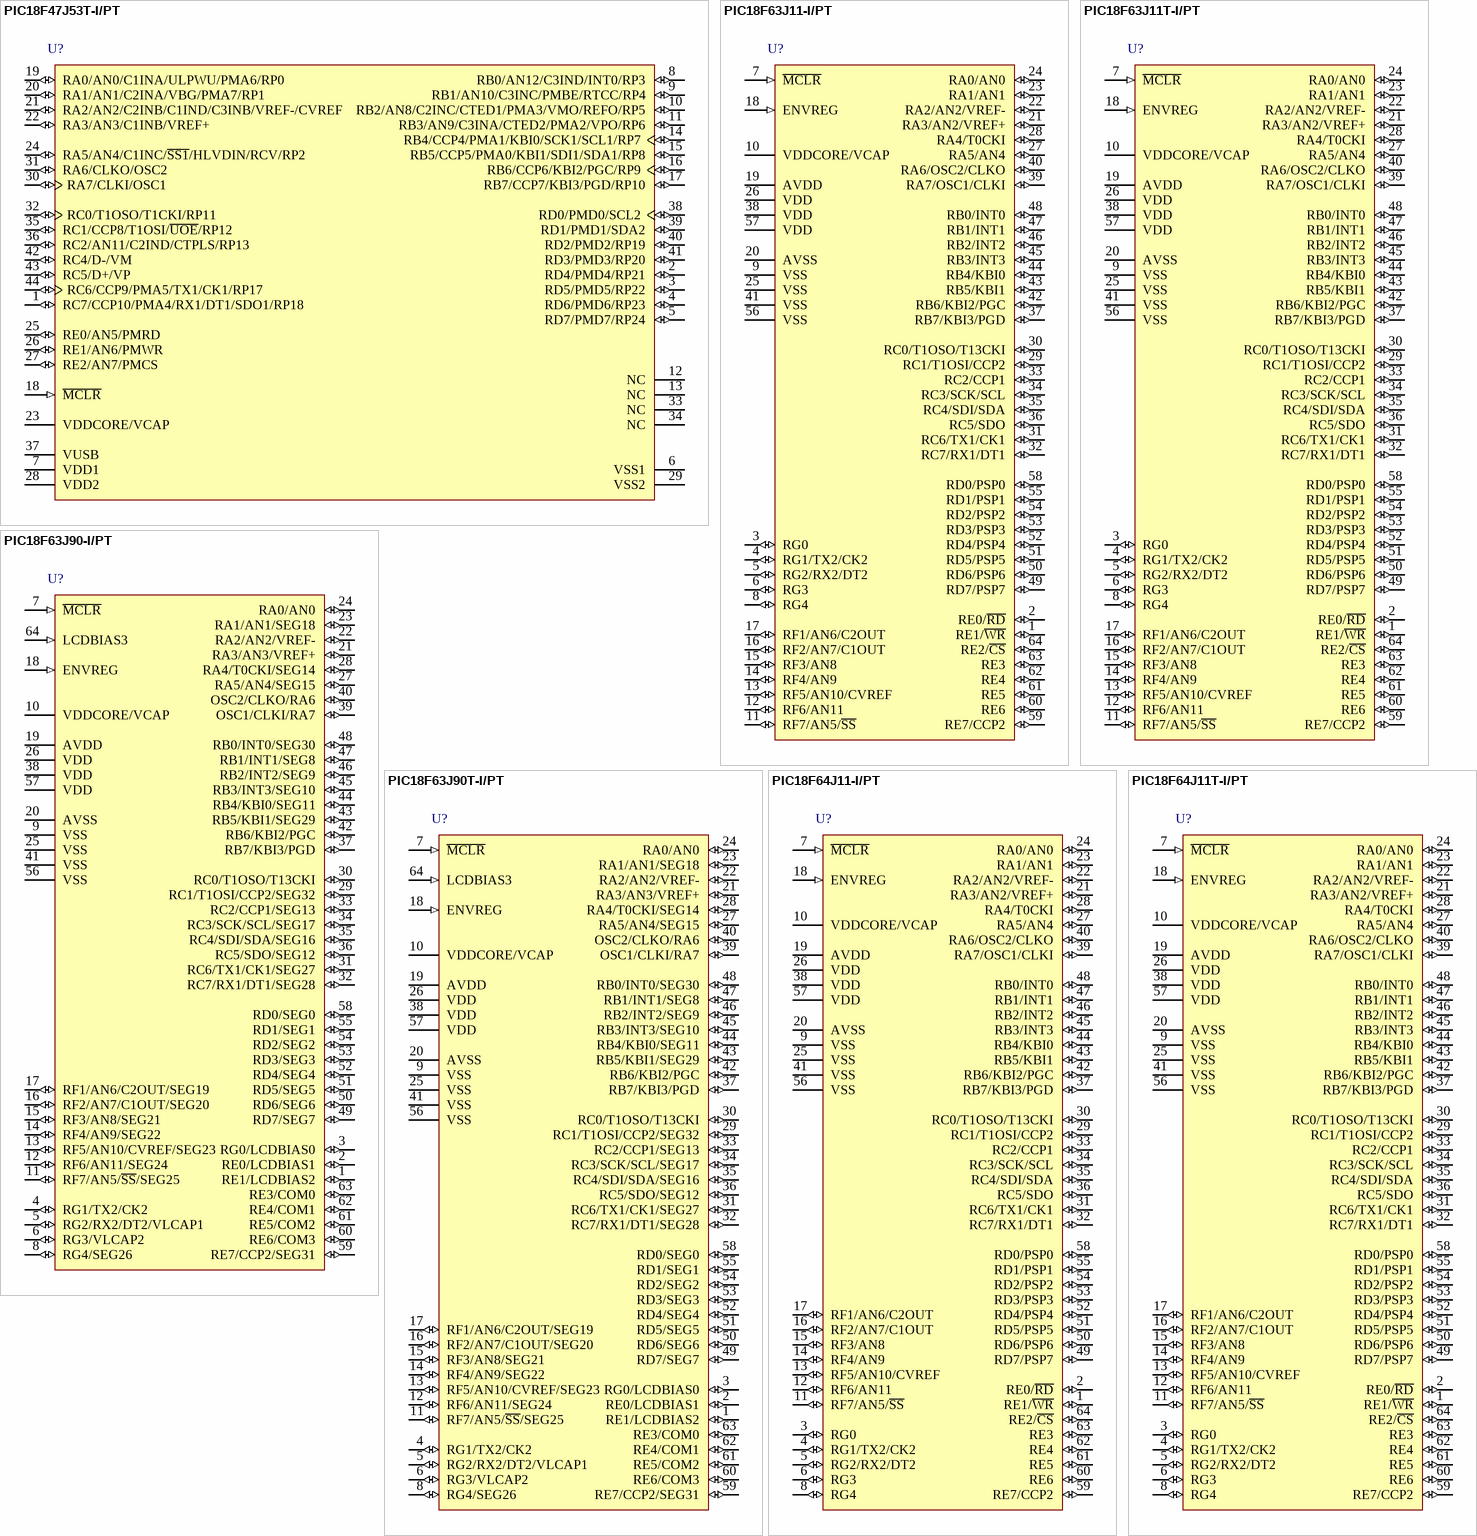
[diagram p41: symbols PIC18F47J53T-I/PT to PIC18F64J11T-I/PT]